# EAGLE library part 62100821021 (library Wuerth_Elektronik_eiCan_Pin_&_Socked_Headers_v1.3)
WR-PHD 1.27mm Dual SMT Pin Header H=3.80 mm, 8 Pins
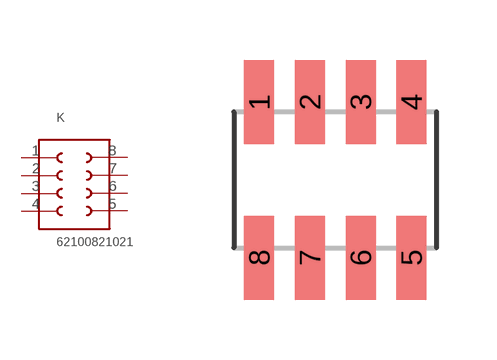
[diagram p327: symbol with the pads of 62100821021; footprint 62100821021]

Designator prefix K

## 62100821021  [62100821021]
1  1  pas
2  2  pas
3  3  pas
4  4  pas
5  5  pas
6  6  pas
7  7  pas
8  8  pas

## Footprint 62100821021 (pad centres in mm)
WR-PHD 1.27mm Dual SMT Pin Header H=3.80 mm, 8 Pins
smd 0.75 x 2.1: 1 -1.905,1.95; 2 -0.635,1.95; 3 0.635,1.95; 4 1.905,1.95; 5 1.905,-1.95; 6 0.635,-1.95; 7 -0.635,-1.95; 8 -1.905,-1.95